# EAGLE library part CP2102 (library openmotestm)
silicon lab cp2102 signal chip usb to uart bridge
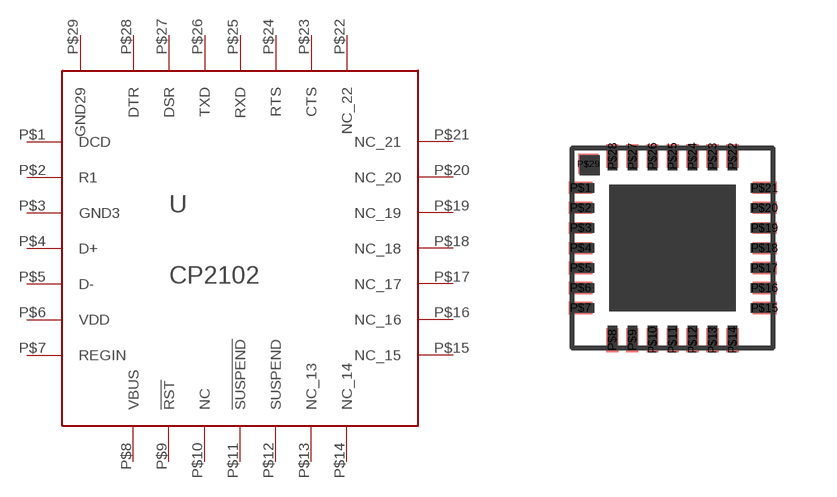
[diagram p8: symbol with the pads of QFN28-5X5; footprint QFN28-5X5]

Designator prefix -

## CP2102  [QFN28-5X5]
P$1  DCD
P$2  R1
P$3  GND3
P$4  D+
P$5  D-
P$6  VDD
P$7  REGIN
P$8  VBUS
P$9  !RST
P$10  NC
P$11  !SUSPEND
P$12  SUSPEND
P$13  NC_13
P$14  NC_14
P$15  NC_15
P$16  NC_16
P$17  NC_17
P$18  NC_18
P$19  NC_19
P$20  NC_20
P$21  NC_21
P$22  NC_22
P$23  CTS
P$24  RTS
P$25  RXD
P$26  TXD
P$27  DSR
P$28  DTR
P$29  GND29

## Footprint QFN28-5X5 (pad centres in mm)
Typical QFN28 landing diagram
smd 0.6 x 0.3: P$1 -2.3,1.5; P$2 -2.3,1; P$3 -2.3,0.5; P$4 -2.3,0; P$5 -2.3,-0.5; P$6 -2.3,-1; P$7 -2.3,-1.5; P$15 2.3,-1.5; P$16 2.3,-1; P$17 2.3,-0.5; P$18 2.3,0; P$19 2.3,0.5; P$20 2.3,1; P$21 2.3,1.5
smd 0.3 x 0.6: P$8 -1.5,-2.3; P$9 -1,-2.3; P$10 -0.5,-2.3; P$11 0,-2.3; P$12 0.5,-2.3; P$13 1,-2.3; P$14 1.5,-2.3; P$22 1.5,2.3; P$23 1,2.3; P$24 0.5,2.3; P$25 0,2.3; P$26 -0.5,2.3; P$27 -1,2.3; P$28 -1.5,2.3
smd 0.5 x 0.5: P$29 -2.103,2.103